# Altium integrated library LTW-170TK.IntLib: 1 symbol
Pins are listed as number, name and electrical type; pins without a type are passive.

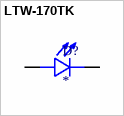
[diagram p0: symbol LTW-170TK]

## LTW-170TK
designator D?
White - LED Indication - Discrete 3.3V 0805 (2012 Metric); MF: Lite-On Inc.; MP: LTW-170TK; SnapEDA_Link: https://www.snapeda.com/parts/LTW-170TK/Lite-On/view-part/?ref=snap; Package: 0805 Lite-On; Value: *; Check_prices: https://www.snapeda.com/parts/LTW-170TK/Lite-On/view-part/?ref=eda
footprint LED_LTW-170TK
pins: A, C